# Altium schematic symbol library transistor_drivers.SchLib: 4 symbols
Pins are listed as number, name and electrical type; pins without a type are passive.

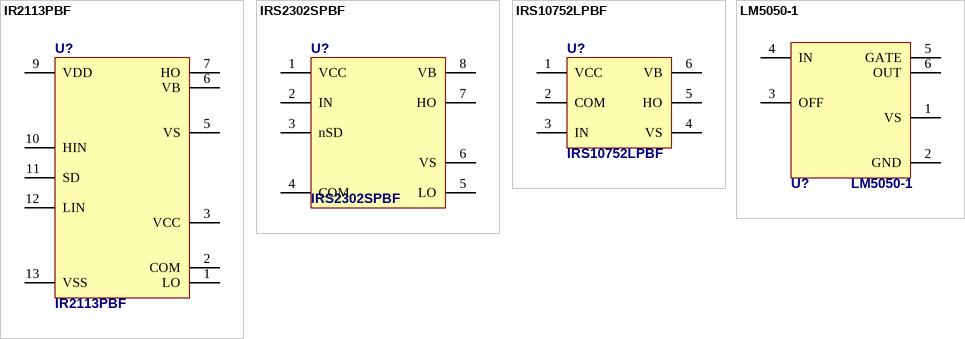
[diagram p0: symbols IR2113PBF to LM5050-1]

## IR2113PBF
designator U?
High and low side transistor driver
footprint DIP14
pins: 1 LO (power), 2 COM (power), 3 VCC (power), 5 VS (power), 6 VB (power), 7 HO (power), 9 VDD (power), 10 HIN (power), 11 SD (power), 12 LIN (power), 13 VSS (power)

## IRS2302SPBF
designator U?
Half bridge driver
footprint SO8 (Small Outline; 8 Leads; Body Width 3.7 mm; Pitch 1.27 mm)
pins: 1 VCC (power), 2 IN (power), 3 nSD (power), 4 COM (power), 5 LO (power), 6 VS (power), 7 HO (power), 8 VB (power)

## IRS10752LPBF
designator U?
SOT-23 High-Side Gate Driver IC
footprint SOT-23-6 (SOT23-6, AKA: SOT-26 (Diodes), SuperSOT-6 (Fairchild), SOT753 (NXP), TSOP5 (NXP))
pins: 1 VCC, 2 COM, 3 IN, 4 VS, 5 HO, 6 VB

## LM5050-1
designator U?
High-Side OR-ing FET Controller
footprint SOT-23-6 (SOT23-6, AKA: SOT-26 (Diodes), SuperSOT-6 (Fairchild), SOT753 (NXP), TSOP5 (NXP))
pins: 1 VS, 2 GND, 3 OFF, 4 IN, 5 GATE, 6 OUT